# EAGLE library part SD_READER (library project-library)
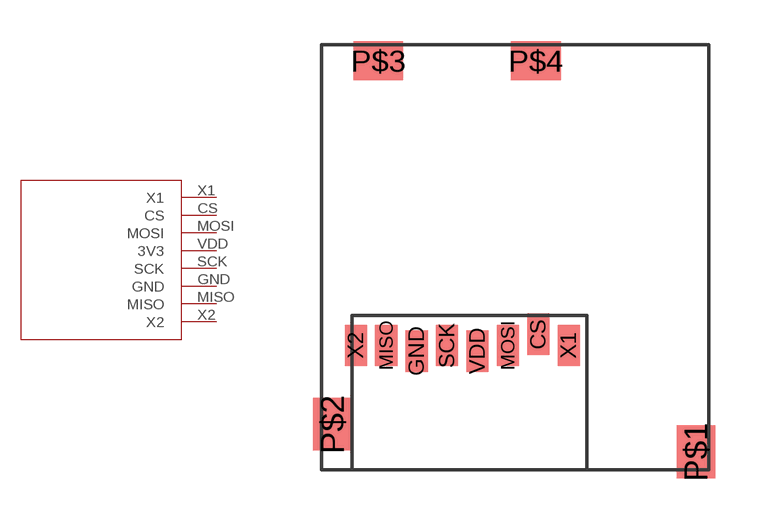
[diagram p0: symbol with the pads of SDREAD; footprint SDREAD]

Designator prefix -

## SD_READER  [SDREAD]
CS  CS
GND  GND
MISO  MISO
MOSI  MOSI
SCK  SCK
VDD  3V3
X1  X1
X2  X2

## Footprint SDREAD (pad centres in mm)
smd 0.8 x 1.5: CS 0.84,-2.79; GND -3.56,-3.39; MISO -4.66,-3.19; MOSI -0.26,-3.19; SCK -2.46,-3.19; VDD -1.36,-3.39; X1 1.94,-3.19; X2 -5.76,-3.19
smd 1.4 x 1.9: P$1 6.55,-7.04; P$2 -6.6,-6.04
smd 1.8 x 1.4: P$3 -4.95,7.11; P$4 0.75,7.11